# EAGLE library part BLUETOOTH_BLUEGIGA (library Bluegiga_Bluetooth)
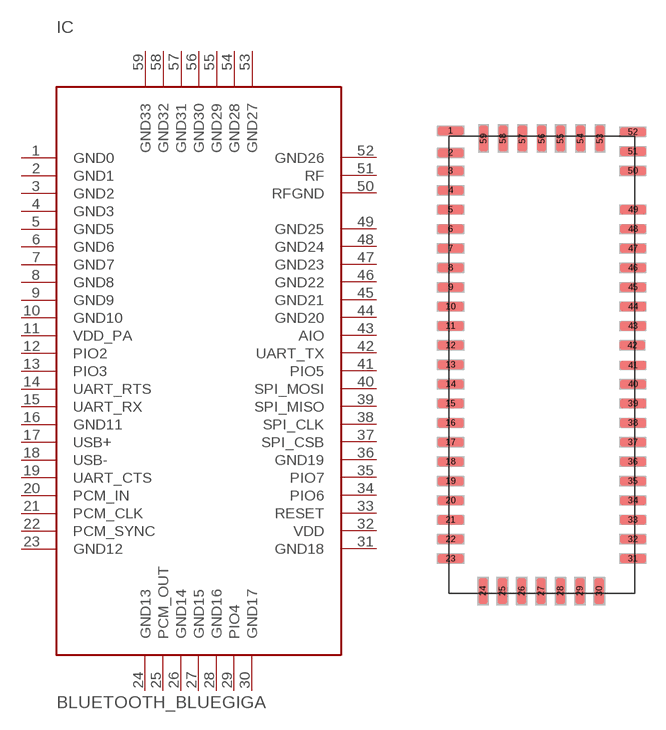
[diagram p0: symbol with the pads of WT41_BLUETOOTH; footprint WT41_BLUETOOTH]

Designator prefix IC

## BLUETOOTH_BLUEGIGAWT41  [WT41_BLUETOOTH]
1  GND0
2  GND1
3  GND2
4  GND3
5  GND5
6  GND6
7  GND7
8  GND8
9  GND9
10  GND10
11  VDD_PA
12  PIO2
13  PIO3
14  UART_RTS
15  UART_RX
16  GND11
17  USB+
18  USB-
19  UART_CTS
20  PCM_IN
21  PCM_CLK
22  PCM_SYNC
23  GND12
24  GND13
25  PCM_OUT
26  GND14
27  GND15
28  GND16
29  PIO4
30  GND17
31  GND18
32  VDD
33  RESET
34  PIO6
35  PIO7
36  GND19
37  SPI_CSB
38  SPI_CLK
39  SPI_MISO
40  SPI_MOSI
41  PIO5
42  UART_TX
43  AIO
44  GND20
45  GND21
46  GND22
47  GND23
48  GND24
49  GND25
50  RFGND
51  RF
52  GND26
53  GND27
54  GND28
55  GND29
56  GND30
57  GND31
58  GND32
59  GND33

## Footprint WT41_BLUETOOTH (pad centres in mm)
smd 2 x 0.7: 1 -7.05,18.1; 2 -7.05,16.4; 3 -7.05,15; 4 -7.05,13.5; 5 -7.05,12; 6 -7.05,10.5; 7 -7.05,9; 8 -7.05,7.5; 9 -7.05,6; 10 -7.05,4.5; 11 -7.05,3; 12 -7.05,1.5; 13 -7.05,0; 14 -7.05,-1.5; 15 -7.05,-3; 16 -7.05,-4.5; 17 -7.05,-6; 18 -7.05,-7.5; 19 -7.05,-9; 20 -7.05,-10.5; 21 -7.05,-12; 22 -7.05,-13.5; 23 -7.05,-15; 31 7.05,-15; 32 7.05,-13.5; 33 7.05,-12; 34 7.05,-10.5; 35 7.05,-9; 36 7.05,-7.5; 37 7.05,-6; 38 7.05,-4.5; 39 7.05,-3; 40 7.05,-1.5; 41 7.05,-0.05; 42 7,1.5; 43 7.05,3; 44 7.05,4.5; 45 7.05,6; 46 7.05,7.5; 47 7.05,9; 48 7.05,10.5; 49 7.05,12; 50 7.05,15; 51 7.05,16.5; 52 7.05,18
smd 0.7 x 2: 24 -4.55,-17.5; 25 -3.05,-17.5; 26 -1.55,-17.5; 27 -0.05,-17.5; 28 1.45,-17.5; 29 2.95,-17.5; 30 4.45,-17.5; 53 4.5,17.5; 54 3,17.5; 55 1.45,17.5; 56 0,17.5; 57 -1.5,17.5; 58 -3,17.5; 59 -4.5,17.5